# Altium footprint library Custom.PcbLib: 5 footprints
Each footprint in its own frame and in the unit in brackets; x right, y up, seen from the top. Pads: shape width x height; smd on the part's side, far side on the other; paste and mask are expansions set on the pad; w line width, h text height; cw(c..) or ccw(c..) is an arc to the next point about the centre after c.
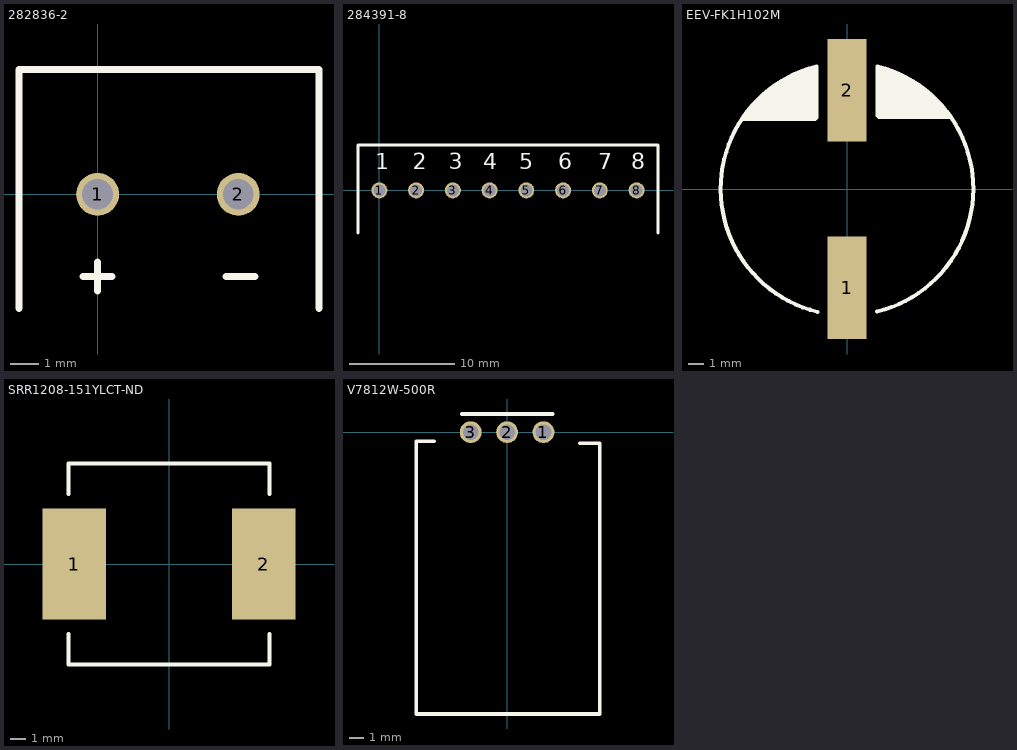
[diagram p0: the footprints below, top view; thin cyan lines are the x and y axes]

## 282836-2 [mil] "Board Mount w/Interlock,  Low Profile,  5.0 mm Centerline,  Side Wire Entry"
height 394
pads (2):
  round 60 hole 43: 1(0,0) 2(197,0)
Top Overlay:
  lines w10: -110,-160 -110,175 310,175 310,-160 ; -20,-115 20,-115 ; 0,-135 0,-95 ; 180,-115 220,-115
3D body: height 394, standoff 0, extent -95,-160 295,160

## 284391-8 [mil] "8-Pos Eurostyle Terminal Block"
height 496.06
pads (8):
  round 60 hole 45.28: 1(0,0) 2(137.8,0) 3(275.59,0) 4(413.39,0) 5(551.18,0) 6(688.98,0) 7(826.77,0) 8(964.57,0)
Top Overlay:
  lines w10: -80,-160 -80,170 1045,170 1045,-160
  text "1" at -15,80 h60
  text "2" at 125,80 h60
  text "3" at 260,80 h60
  text "4" at 390,80 h60
  text "5" at 525,80 h60
  text "6" at 670,80 h60
  text "7" at 820,80 h60
  text "8" at 945,80 h60
3D body: height 496.06, standoff 0, extent -75,-160 1040,165

## EEV-FK1H102M [mm] "Aluminum Electrolitic Capcitor"
height 16.51
pads (2):
  rect 2.5x6.5 smd: 1(0,-6.25) 2(0,6.25)
Top Overlay:
  region: -6.604,4.445 -2.032,4.445 -1.94,4.537 -1.94,7.761 -2.145,7.761 -2.413,7.493 -3.048,7.493 -3.429,7.112 -3.81,7.112 -4.064,6.858 -4.191,6.858 -4.445,6.604 -4.572,6.604 -4.826,6.35 -4.953,6.35 -4.953,6.223 -5.207,5.969 -5.334,5.969 -5.588,5.715 -5.715,5.715 -5.715,5.588 -5.842,5.461 -5.969,5.461 -5.969,5.207 -6.096,5.207 -6.477,4.826 -6.477,4.572
  region: 6.604,4.445 2.032,4.445 1.94,4.537 1.94,7.761 2.145,7.761 2.413,7.493 3.048,7.493 3.429,7.112 3.81,7.112 4.064,6.858 4.191,6.858 4.445,6.604 4.572,6.604 4.826,6.35 4.953,6.35 4.953,6.223 5.207,5.969 5.334,5.969 5.588,5.715 5.715,5.715 5.715,5.588 5.842,5.461 5.969,5.461 5.969,5.207 6.096,5.207 6.477,4.826 6.477,4.572
  lines w0.254: -6.604,4.445 -2.032,4.445 -1.94,4.537 -1.94,7.761 ccw(c0,0) -1.881,-7.776 ; 1.91,-7.769 ccw(c0,0) 1.94,7.761 1.94,4.664 2.032,4.572 6.477,4.572
3D body: height 16.5, standoff 0, extent -7.937,-7.984 8,7.984
3D body: height 3, standoff 0, extent -8.509,-8.255 8.509,8.255

## SRR1208-151YLCT-ND [mm]
height 8.509
pads (2):
  rect 4x7 smd: 1(-6,0) 2(6,0)
Top Overlay:
  lines w0.254: -6.35,-4.445 -6.35,-6.35 6.35,-6.35 6.35,-4.445 ; -6.35,4.445 -6.35,6.35 6.35,6.35 6.35,4.445
3D body: height 8.5, standoff 0, extent -6.223,-6.223 6.223,6.223

## V7812W-500R [mil] "CONVERT DC/DC REG 12V 500MA 3SIP"
height 350
pads (3):
  round 60 hole 43: 1(100,0) 2(0,0) 3(-100,0)
Top Overlay:
  lines w10: -200,-25 -250,-25 -250,-775 255,-775 255,-30 200,-30 ; -125,50 125,50
3D body: height 354, standoff 0, extent -227.5,-742.5 227.5,-55